# Altium schematic symbol library Transformators.SchLib: 3 symbols
Pins are listed as number, name and electrical type; pins without a type are passive.

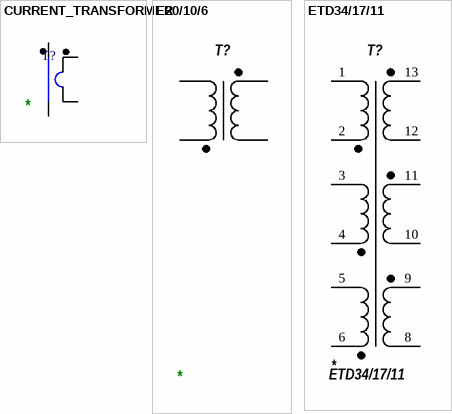
[diagram p0: symbols CURRENT_TRANSFORMER to ETD34/17/11]

## CURRENT_TRANSFORMER
designator T?
Трансформатор тока; ValueManufacturer: *; ValueDescription: *; ValueType: *; Value: *; ValueManufacturerPartNumber: *
pins: In+, In-, Out+, Out-

## E20/10/6
designator T?
Value: *; ValueManufacturer: *; ValueType: *; ValueManufacturerPartNumber: *
pins: 1, 3, 4, 6

## ETD34/17/11
designator T?
Flayback; Value: *; ValueManufacturer: *; ValueManufacturerPartNumber: *; ValueType: *; ValueDescription: *
footprint ETD34/17/11
pins: 1, 2, 3, 4, 5, 6, 8, 9, 10, 11, 12, 13